# Altium footprint library TPN4R806PL.PcbLib: 1 footprints
Each footprint in its own frame and in the unit in brackets; x right, y up, seen from the top. Pads: shape width x height; smd on the part's side, far side on the other; paste and mask are expansions set on the pad; w line width, h text height; cw(c..) or ccw(c..) is an arc to the next point about the centre after c.
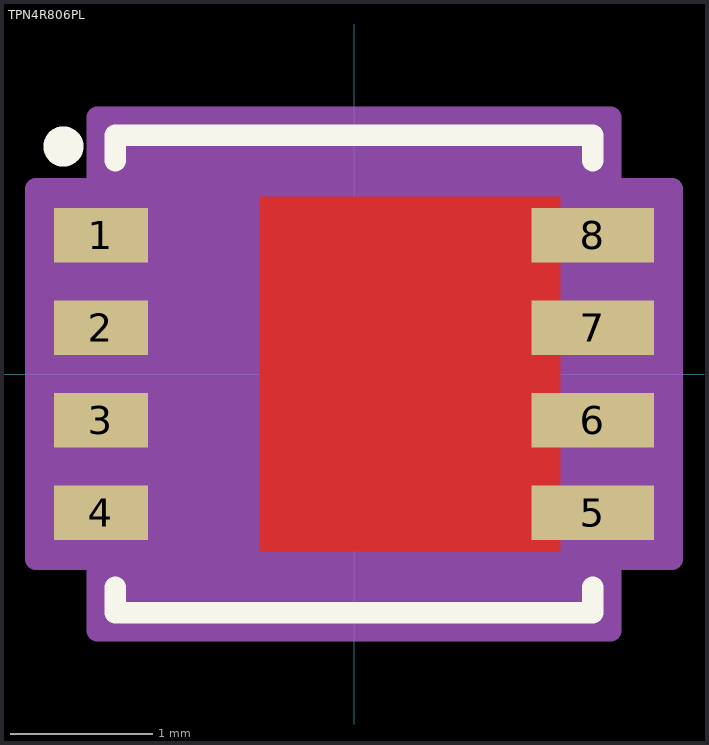
[diagram p0: the footprint, top view; thin cyan lines are the x and y axes]

## TPN4R806PL [mil]
height 33.46
pads (8):
  rect 26x15 smd paste+0 mask+0: 1(-70,38.39) 2(-70,12.8) 3(-70,-12.8) 4(-70,-38.39)
  rect 33.86x15 smd paste+0 mask+0: 5(66.06,-38.39) 6(66.06,-12.8) 7(66.06,12.8) 8(66.06,38.39)
Top Layer:
  region: 57,49 57,-49 -26,-49 -26,49
Top Overlay:
  circle w7.87: c-80.36,62.93 r1.61
  lines w6: -66,-58.99 -66,-66 25,-66 ; -66,58.99 -66,66 -20.6,66 66,66 66,58.99 ; 20.6,-66 66,-66 66,-58.99
Top Paste:
  region: -57,-49 -57,49 26,49 26,-49
Top Solder:
  region: 57,49 57,-49 -26,-49 -26,49
Mechanical 13:
  lines w1: -71,-45.89 -61,-45.89 -61,-30.89 -71,-30.89 -71,-45.89 ; -71,-20.3 -61,-20.3 -61,-5.3 -71,-5.3 -71,-20.3 ; -71,5.3 -61,5.3 -61,20.3 -71,20.3 -71,5.3 ; -71,30.89 -61,30.89 -61,45.89 -71,45.89 -71,30.89 ; -61,-61 61,-61 61,61 -61,61 -61,-61 ; 61,-45.89 71,-45.89 71,-30.89 61,-30.89 61,-45.89 ; 61,-20.3 71,-20.3 71,-5.3 61,-5.3 61,-20.3 ; 61,5.3 71,5.3 71,20.3 61,20.3 61,5.3 ; 61,30.89 71,30.89 71,45.89 61,45.89 61,30.89
Mechanical 15:
  region: 12.8,71 71,71 71,51.18 88,51.18 88,-51.18 71,-51.18 71,-71 12.8,-71 -12.8,-71 -71,-71 -71,-51.18 -88,-51.18 -88,51.18 -71,51.18 -71,71 -12.8,71
  lines w6: -88,-51.18 -88,51.18 -71,51.18 -71,71 -12.8,71 71,71 71,51.18 88,51.18 88,-51.18 71,-51.18 71,-71 12.8,-71 -12.8,-71 -71,-71 -71,-51.18 -88,-51.18
3D body "TSON Advance_z90.stp": height 33.46, standoff 0, extent -64.95,-64.95 64.97,64.97